# Altium schematic symbol library NHUMH2.Schlib: 1 symbol
Pins are listed as number, name and electrical type; pins without a type are passive.

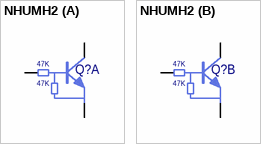
[diagram p0: symbol NHUMH2]

## NHUMH2
designator Q?  (value not drawn)
Transitor PNP
part A pins: 1 GND1, 2 I1, 6 O1
part B pins: 3 O2, 4 GND2, 5 I2
part A text: 47K
part B text: 47K